# EAGLE library part SN74CBT3253 (library AMP2-ICs)
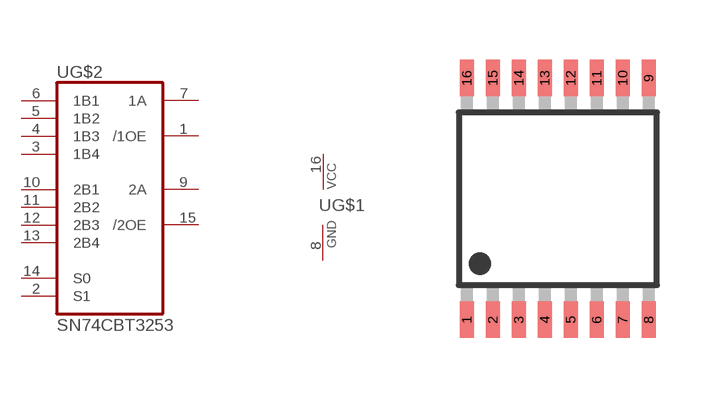
[diagram p73: symbol with the pads of TSSOP16-PW; footprint TSSOP16-PW]

Designator prefix -; gates G$1=PWRN G$2=SN74CBT3253

## SN74CBT3253  [TSSOP16-PW]
1  G$2:/1OE
2  G$2:S1  in
3  G$2:1B4
4  G$2:1B3
5  G$2:1B2
6  G$2:1B1
7  G$2:1A
8  G$1:GND  pwr
9  G$2:2A
10  G$2:2B1
11  G$2:2B2
12  G$2:2B3
13  G$2:2B4
14  G$2:S0  in
15  G$2:/2OE
16  G$1:VCC  pwr

## Footprint TSSOP16-PW (pad centres in mm)
PLASTIC SMALL-OUTLINE PACKAGE PW (R-PDSO-G16) Source: www.ti.com .. ADS7828.pdf
smd 0.35 x 0.9: 1 -2.275,-3.025; 2 -1.625,-3.025; 3 -0.975,-3.025; 4 -0.325,-3.025; 5 0.325,-3.025; 6 0.975,-3.025; 7 1.625,-3.025; 8 2.275,-3.025; 9 2.275,3.025; 10 1.625,3.025; 11 0.975,3.025; 12 0.325,3.025; 13 -0.325,3.025; 14 -0.975,3.025; 15 -1.625,3.025; 16 -2.275,3.025